# Altium integrated library Raspberry Pi 3 Model B.IntLib: 1 symbol
Pins are listed as number, name and electrical type; pins without a type are passive.

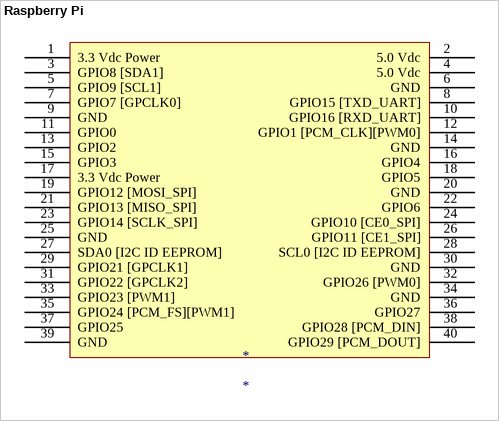
[diagram p0: symbol Raspberry Pi]

## Raspberry Pi
designator *
footprint PCBComponent_1
pins: 1 3.3 Vdc Power, 2 5.0 Vdc, 3 GPIO8 [SDA1], 4 5.0 Vdc, 5 GPIO9 [SCL1], 6 GND, 7 GPIO7 [GPCLK0], 8 GPIO15 [TXD_UART], 9 GND, 10 GPIO16 [RXD_UART], 11 GPIO0, 12 GPIO1 [PCM_CLK][PWM0], 13 GPIO2, 14 GND, 15 GPIO3, 16 GPIO4, 17 3.3 Vdc Power, 18 GPIO5, 19 GPIO12 [MOSI_SPI], 20 GND, 21 GPIO13 [MISO_SPI], 22 GPIO6, 23 GPIO14 [SCLK_SPI], 24 GPIO10 [CE0_SPI], 25 GND, 26 GPIO11 [CE1_SPI], 27 SDA0 [I2C ID EEPROM], 28 SCL0 [I2C ID EEPROM], 29 GPIO21 [GPCLK1], 30 GND, 31 GPIO22 [GPCLK2], 32 GPIO26 [PWM0], 33 GPIO23 [PWM1], 34 GND, 35 GPIO24 [PCM_FS][PWM1], 36 GPIO27, 37 GPIO25, 38 GPIO28 [PCM_DIN], 39 GND, 40 GPIO29 [PCM_DOUT]